# EAGLE library part DF13A-9P (library SSI)
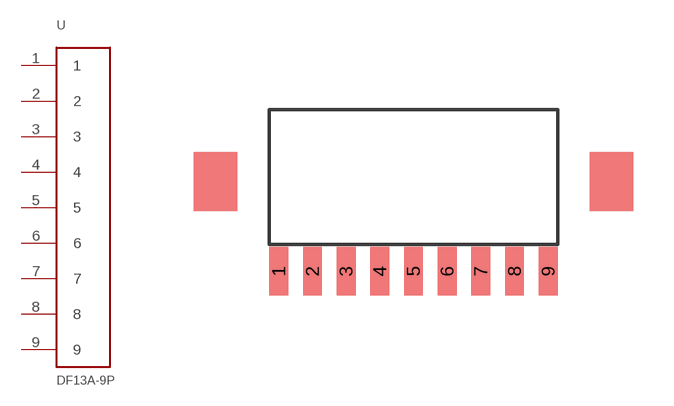
[diagram p16: symbol with the pads of DF13A-9P; footprint DF13A-9P]

Designator prefix -

## DF13A-9P  [DF13A-9P]
1  1
2  2
3  3
4  4
5  5
6  6
7  7
8  8
9  9

## Footprint DF13A-9P (pad centres in mm)
smd 0.7 x 1.8: 1 0,0; 2 1.25,0; 3 2.5,0; 4 3.75,0; 5 5,0; 6 6.25,0; 7 7.5,0; 8 8.75,0; 9 10,0